# Altium footprint library Conn_Molex_67643-0910_eec_0.PcbLib: 1 footprints
Each footprint in its own frame and in the unit in brackets; x right, y up, seen from the top. Pads: shape width x height; smd on the part's side, far side on the other; paste and mask are expansions set on the pad; w line width, h text height; cw(c..) or ccw(c..) is an arc to the next point about the centre after c.
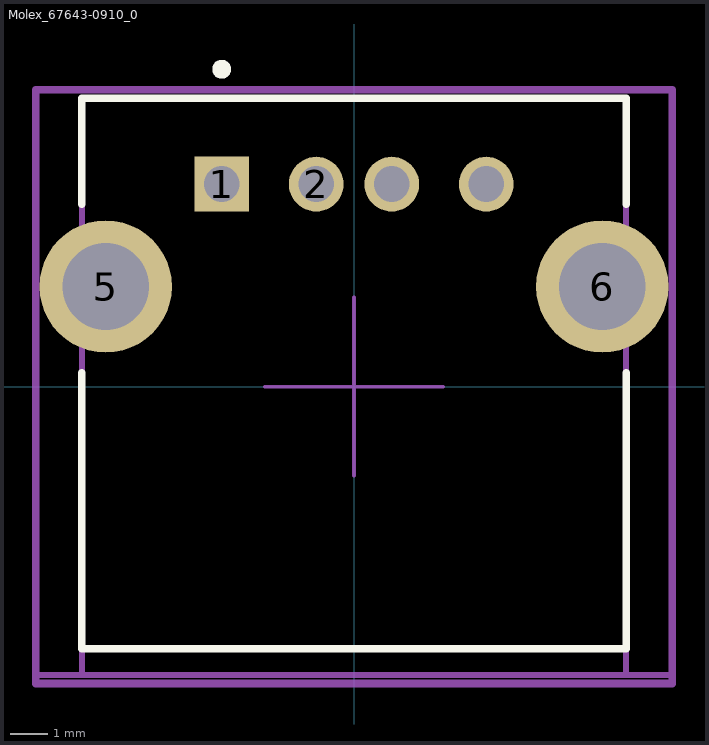
[diagram p0: the footprint, top view; thin cyan lines are the x and y axes]

## Molex_67643-0910_0 [mm]
pads (6):
  rect 1.45x1.45 hole 0.95 paste-1000 mask+0: 1(-3.5,5.36)
  round 1.45 hole 0.95 paste-1000 mask+0: 2(-1,5.36) ""(1,5.36) ""(3.5,5.36)
  round 3.5 hole 2.3 paste-1000 mask+0: 5(-6.57,2.65) 6(6.57,2.65)
Top Overlay:
  circle w0.25: c-3.5,8.4 r0.125
  lines w0.2: -7.2,0.37 -7.2,-6.93 7.2,-6.93 7.2,0.37 ; -7.2,4.83 -7.2,7.63 7.2,7.63 7.2,4.83
Mechanical 10:
  lines w0.2: -8.42,-7.855 8.42,-7.855 8.42,7.855 -8.42,7.855 -8.42,-7.855
  text ".Designator" at 0,0 h1
Mechanical 12:
  lines w0.15: -8.42,-7.63 8.42,-7.63 ; -7.2,-7.63 7.2,-7.63 7.2,7.63 -7.2,7.63 -7.2,-7.63
Mechanical 15:
  lines w0.1: -2.357,0 2.357,0 ; 0,-2.357 0,2.357
  lines w0.2: -8.42,-7.855 8.42,-7.855 8.42,7.855 -8.42,7.855 -8.42,-7.855
3D body "3dmodel.step": height 0.25, standoff 0, extent -8.42,-7.855 8.42,7.855